# EAGLE library part KMMX-BSMT35S-B30TR (library KMMX-BSMT35S-B30TR)
CONN RCPT USB MICRO B SMD RA Source: Datasheet <http://www.kycon.com/Pub_Eng_Draw/KMMX-BSMT35S-BTR.pdf>
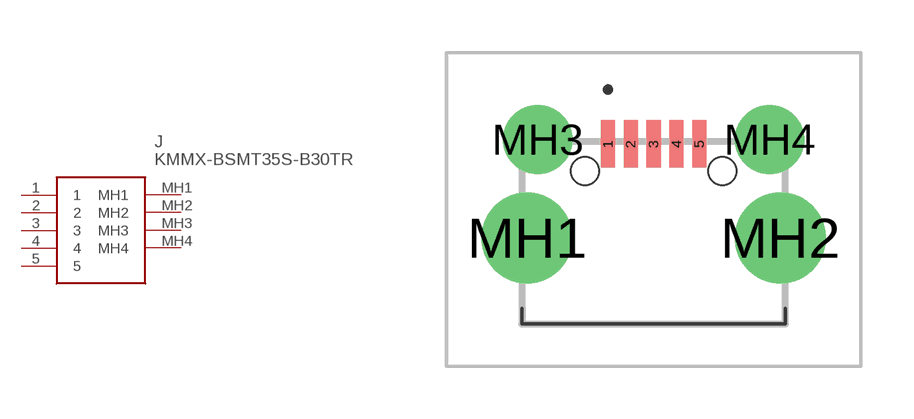
[diagram p0: symbol with the pads of KMMXBSMT35SB30TR; footprint KMMXBSMT35SB30TR]

Designator prefix J

## KMMX-BSMT35S-B30TR (Description: CONN RCPT USB MICRO B SMD RA; Height: 2.18mm; Manufacturer_Name: Kycon, Inc.; Manufacturer_Part_Number: KMMX-BSMT35S-B30TR)  [KMMXBSMT35SB30TR]
1  1
2  2
3  3
4  4
5  5
MH1  MH1
MH2  MH2
MH3  MH3
MH4  MH4

## Footprint KMMXBSMT35SB30TR (pad centres in mm)
KMMX-BSMT35S-B30TR-1
smd 0.4 x 1.35: 1 -1.3,2.675; 2 -0.65,2.675; 3 0,2.675; 4 0.65,2.675; 5 1.3,2.675
drill 1.724 pad 2.586: MH1 -3.6,0; MH2 3.6,0
drill 1.312 pad 1.969: MH3 -3.3,2.8; MH4 3.3,2.8
hole 0.8 at -1.95,1.9
hole 0.8 at 1.95,1.9